# Altium schematic symbol library con-avx.SCHLIB: 7 symbols
Pins are listed as number, name and electrical type; pins without a type are passive.

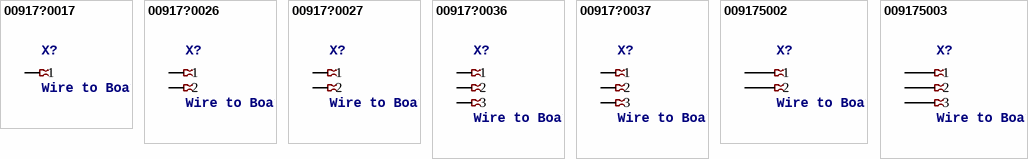
[diagram p0: symbols 00917?0017 to 009175003]

## 00917?0017
designator X?, comment Wire to Board Strip IDC Connector 1 WAY   Source: http://www.avx.com/docs/Catalogs/9177.pdf
MPN: 009177001001006; OC_FARNELL: unknown; OC_NEWARK: 09P1120
footprint 009177001
pins: 1

## 00917?0026
designator X?, comment Wire to Board Strip IDC Connector 2 WAY   Source: http://www.avx.com/docs/Catalogs/9176.pdf http://www.avx.com/docs/Catalogs/9177.pdf
MPN: 009176002001006; OC_FARNELL: 1582834; OC_NEWARK: 66M1960
footprint 009176002
pins: 1, 2

## 00917?0027
designator X?, comment Wire to Board Strip IDC Connector 2 WAY   Source: http://www.avx.com/docs/Catalogs/9176.pdf http://www.avx.com/docs/Catalogs/9177.pdf
MPN: 009177002001006; OC_FARNELL: unknown; OC_NEWARK: 09P1124
footprint 009177002
pins: 1, 2

## 00917?0036
designator X?, comment Wire to Board Strip IDC Connector 3 WAY   Source: http://www.avx.com/docs/Catalogs/9176.pdf http://www.avx.com/docs/Catalogs/9177.pdf
MPN: 009176003001106; OC_FARNELL: 1778540; OC_NEWARK: 52R7005
footprint 009176003
pins: 1, 2, 3

## 00917?0037
designator X?, comment Wire to Board Strip IDC Connector 3 WAY   Source: http://www.avx.com/docs/Catalogs/9176.pdf http://www.avx.com/docs/Catalogs/9177.pdf
MPN: 009177003001006; OC_FARNELL: unknown; OC_NEWARK: 09P1128
footprint 009177003
pins: 1, 2, 3

## 009175002
designator X?, comment Wire to Board IDC Connector 2 WAY   Source: http://www.avx.com/docs/Catalogs/9175.pdf
MPN: 009175002001006; OC_FARNELL: 1387484; OC_NEWARK: 40M7660
footprint 009175002
pins: 1, 1@1, 2, 2@1

## 009175003
designator X?, comment Wire to Board IDC Connector 3 WAY   Source: http://www.avx.com/docs/Catalogs/9175.pdf
MPN: 009175003001006; OC_FARNELL: 1387485; OC_NEWARK: 40M7661
footprint 009175003
pins: 1, 1@1, 2, 2@1, 3, 3@2